# Altium schematic symbol library FlyBox2.SchLib: 7 symbols
Pins are listed as number, name and electrical type; pins without a type are passive.

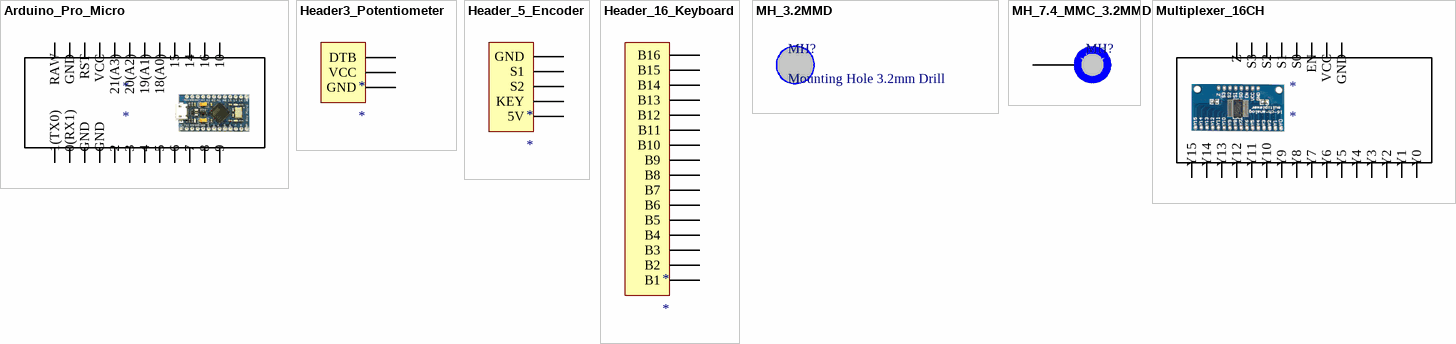
[diagram p0: symbols Arduino_Pro_Micro to Multiplexer_16CH]

## Arduino_Pro_Micro
designator *
Arduino pro micro board
footprint Arduino_Pro_Micro_Board
pins: 1 1(TX0), 2 0(RX1), 3 GND, 4 GND, 5 2, 6 3, 7 4, 8 5, 9 6, 10 7, 11 8, 12 9, 13 RAW, 14 GND, 15 RST, 16 VCC, 17 21(A3), 18 20(A2), 19 19(A1), 20 18(A0), 21 15, 22 14, 23 16, 24 10

## Header3_Potentiometer
designator *
footprint HDR1X3_Potentiometer
pins: 1 GND "DT", 2 VCC "CLK", 3 DTB

## Header_5_Encoder
designator *
Header 5 pins to connect one encoder
footprint HDR1X5_Encoder (Header 5 pins for Encoder module)
pins: 1 GND, 2 S1 "CLK", 3 S2 "DT", 4 KEY "Press button", 5 5V

## Header_16_Keyboard
designator *
footprint HDR1X16_Buttons
pins: 1 B1, 2 B2, 3 B3, 4 B4, 5 B5, 6 B6, 7 B7, 8 B8, 9 B9, 10 B10, 11 B11, 12 B12, 13 B13, 14 B14, 15 B15, 16 B16

## MH_3.2MMD
designator MH?, comment Mounting Hole 3.2mm Drill  (no BOM)
footprint MH_3.2MMD

## MH_7.4_MMC_3.2MMD
designator MH?, comment Mounting Hole 7.4mm Diameter, 3.2mm Drill  (value not drawn)  (no BOM)
footprint MH_7.4_MMC_3.2MMD (Mounting Hole 7.4mm Diameter, 3.2mm Drill)
pins: 1

## Multiplexer_16CH
designator *
footprint Multiplexer_16CH
pins: 1 Y0, 2 Y1, 3 Y2, 4 Y3, 5 Y4, 6 Y5, 7 Y6, 8 Y7, 9 Y8, 10 Y9, 11 Y10, 12 Y11, 13 Y12, 14 Y13, 15 Y14, 16 Y15, 17 GND, 18 VCC, 19 EN, 20 S0, 21 S1, 22 S2, 23 S3, 24 Z